# Altium integrated library control.IntLib: 17 symbols
Pins are listed as number, name and electrical type; pins without a type are passive.

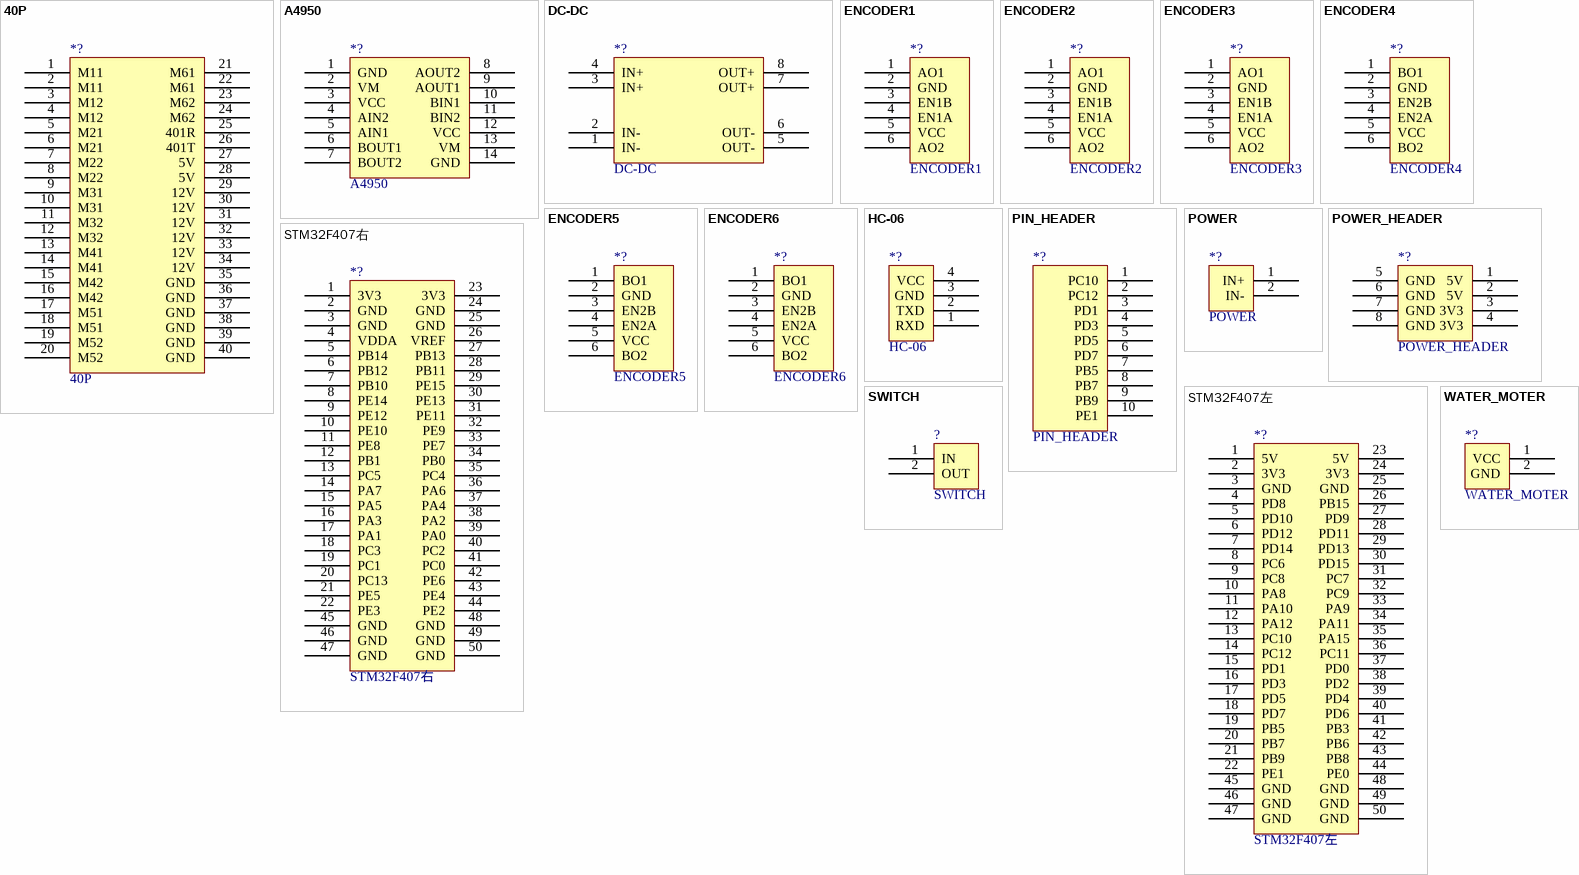
[diagram p0: symbols 40P to WATER_MOTER]

## 40P
designator *?
footprint PCBComponent_1
pins: 1 M11, 2 M11, 3 M12, 4 M12, 5 M21, 6 M21, 7 M22, 8 M22, 9 M31, 10 M31, 11 M32, 12 M32, 13 M41, 14 M41, 15 M42, 16 M42, 17 M51, 18 M51, 19 M52, 20 M52, 21 M61, 22 M61, 23 M62, 24 M62, 25 401R, 26 401T, 27 5V, 28 5V, 29 12V, 30 12V, 31 12V, 32 12V, 33 12V, 34 12V, 35 GND, 36 GND, 37 GND, 38 GND, 39 GND, 40 GND

## A4950
designator *?
footprint A4950
pins: 1 GND, 2 VM, 3 VCC, 4 AIN2, 5 AIN1, 6 BOUT1, 7 BOUT2, 8 AOUT2, 9 AOUT1, 10 BIN1, 11 BIN2, 12 VCC, 13 VM, 14 GND

## DC-DC
designator *?
footprint DC-DC
pins: 1 IN-, 2 IN-, 3 IN+, 4 IN+, 5 OUT-, 6 OUT-, 7 OUT+, 8 OUT+

## ENCODER1
designator *?
footprint ENCODER1
pins: 1 AO1, 2 GND, 3 EN1B, 4 EN1A, 5 VCC, 6 AO2

## ENCODER2
designator *?
footprint ENCODER1
pins: 1 AO1, 2 GND, 3 EN1B, 4 EN1A, 5 VCC, 6 AO2

## ENCODER3
designator *?
footprint ENCODER1
footprint ENCODER1
pins: 1 AO1, 2 GND, 3 EN1B, 4 EN1A, 5 VCC, 6 AO2

## ENCODER4
designator *?
footprint ENCODER2
pins: 1 BO1, 2 GND, 3 EN2B, 4 EN2A, 5 VCC, 6 BO2

## ENCODER5
designator *?
footprint ENCODER2
pins: 1 BO1, 2 GND, 3 EN2B, 4 EN2A, 5 VCC, 6 BO2

## ENCODER6
designator *?
footprint ENCODER2
pins: 1 BO1, 2 GND, 3 EN2B, 4 EN2A, 5 VCC, 6 BO2

## HC-06
designator *?
footprint HC-06
pins: 1 RXD, 2 TXD, 3 GND, 4 VCC

## PIN_HEADER
designator *?
footprint PIN_HEADER
pins: 1 PC10, 2 PC12, 3 PD1, 4 PD3, 5 PD5, 6 PD7, 7 PB5, 8 PB7, 9 PB9, 10 PE1

## POWER
designator *?
footprint POWER
pins: 1 IN+, 2 IN-

## POWER_HEADER
designator *?
footprint POWER_HEADER
pins: 1 5V, 2 5V, 3 3V3, 4 3V3, 5 GND, 6 GND, 7 GND, 8 GND

## STM32F407右
designator *?
footprint STM32F407左
pins: 1 3V3, 2 GND, 3 GND, 4 VDDA, 5 PB14, 6 PB12, 7 PB10, 8 PE14, 9 PE12, 10 PE10, 11 PE8, 12 PB1, 13 PC5, 14 PA7, 15 PA5, 16 PA3, 17 PA1, 18 PC3, 19 PC1, 20 PC13, 21 PE5, 22 PE3, 23 3V3, 24 GND, 25 GND, 26 VREF, 27 PB13, 28 PB11, 29 PE15, 30 PE13, 31 PE11, 32 PE9, 33 PE7, 34 PB0, 35 PC4, 36 PA6, 37 PA4, 38 PA2, 39 PA0, 40 PC2, 41 PC0, 42 PE6, 43 PE4, 44 PE2, 45 GND, 46 GND, 47 GND, 48 GND, 49 GND, 50 GND

## STM32F407左
designator *?
footprint STM32F407左
pins: 1 5V, 2 3V3, 3 GND, 4 PD8, 5 PD10, 6 PD12, 7 PD14, 8 PC6, 9 PC8, 10 PA8, 11 PA10, 12 PA12, 13 PC10, 14 PC12, 15 PD1, 16 PD3, 17 PD5, 18 PD7, 19 PB5, 20 PB7, 21 PB9, 22 PE1, 23 5V, 24 3V3, 25 GND, 26 PB15, 27 PD9, 28 PD11, 29 PD13, 30 PD15, 31 PC7, 32 PC9, 33 PA9, 34 PA11, 35 PA15, 36 PC11, 37 PD0, 38 PD2, 39 PD4, 40 PD6, 41 PB3, 42 PB6, 43 PB8, 44 PE0, 45 GND, 46 GND, 47 GND, 48 GND, 49 GND, 50 GND

## SWITCH
designator ?
footprint switch
pins: 1 IN, 2 OUT

## WATER_MOTER
designator *?
footprint WATER_HEADER
pins: 1 VCC, 2 GND